# Altium schematic symbol library GOST_Inductors.SchLib: 2 symbols
Pins are listed as number, name and electrical type; pins without a type are passive.

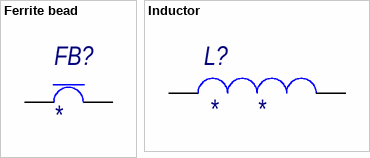
[diagram p0: symbols Ferrite bead to Inductor]

## Ferrite bead
designator FB?
Model: *; Max current: *; Impedance: *; Case: *; HelpURL: *; Manufacture: *; Inductance: *
pins: 1 (power), 2 (power)

## Inductor
designator L?
HelpURL: *; Model: *; Manufacture: *; Impedance: *; Case: *; Max current: *; Inductance: *
pins: 1 (power), 2 (power)